# EAGLE library part 7499210124A (library 7499210124A)
LAN-Übertrager WE-RJ45LAN 10/100BaseT PoE Wuerth 7499210124A Datasheet: http://www.mouser.com/ds/2/445/7499210124A-254273.pdf
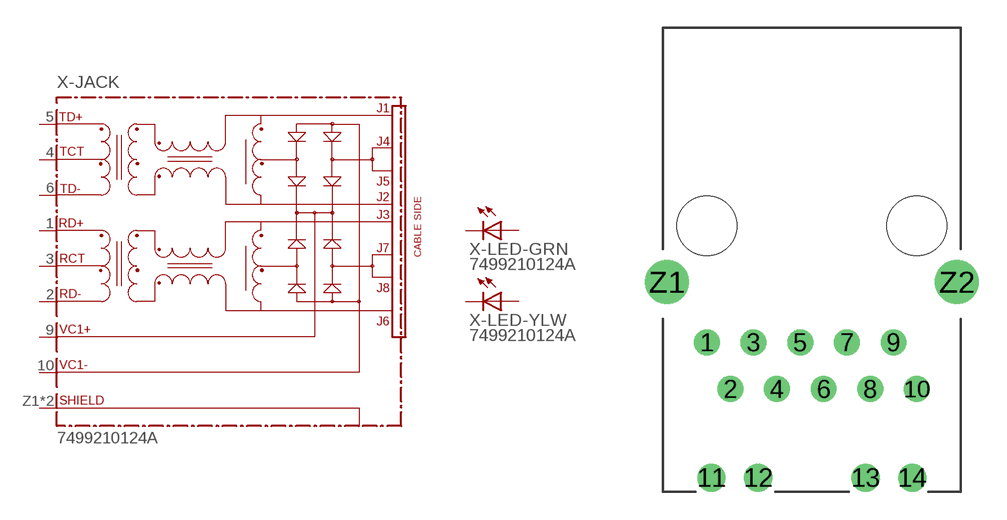
[diagram p0: symbol with the pads of 7499210124A; footprint 7499210124A]

Designator prefix X; gates -LED-GRN=LED -LED-YLW=LED -JACK=MAGJACK-POE

## 7499210124A  [7499210124A]
1  -JACK:RD+
2  -JACK:RD-
3  -JACK:RCT
4  -JACK:TCT
5  -JACK:TD+
6  -JACK:TD-
9  -JACK:VC1+  pwr
10  -JACK:VC1-  pwr
11  -LED-GRN:C  pas
12  -LED-GRN:A  pas
13  -LED-YLW:C  pas
14  -LED-YLW:A  pas
Z1  -JACK:SHIELD
Z2  -JACK:SHIELD

## Footprint 7499210124A (pad centres in mm)
drill 0.9: 1 -5.715,-3.81; 2 -4.445,-6.35; 3 -3.175,-3.81; 4 -1.905,-6.35; 5 -0.635,-3.81; 6 0.635,-6.35; 7 1.905,-3.81; 8 3.175,-6.35; 9 4.445,-3.81; 10 5.715,-6.35
drill 1.02: 11 -5.465,-11.18; 12 -2.925,-11.18; 13 2.925,-11.18; 14 5.465,-11.18
drill 1.6: Z1 -7.9,-0.51; Z2 7.9,-0.51
hole 3.25 at 5.715,2.54
hole 3.25 at -5.715,2.54